# Altium schematic symbol library AD8233.SchLib: 11 symbols
Pins are listed as number, name and electrical type; pins without a type are passive.

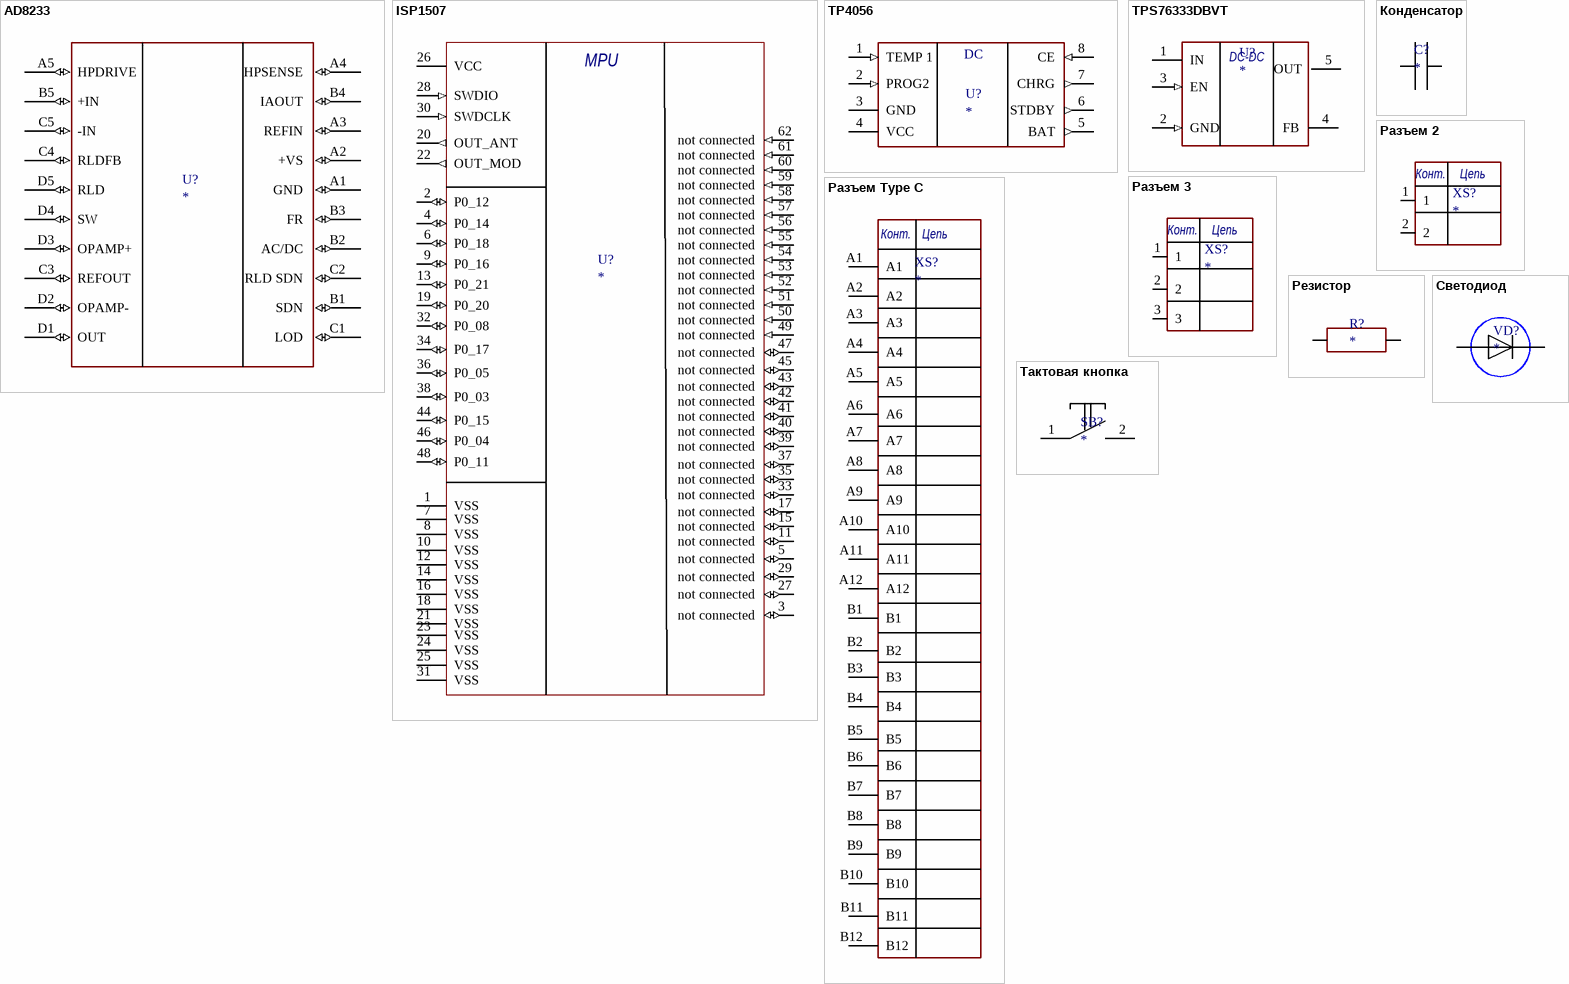
[diagram p0: symbols AD8233 to Тактовая кнопка]

## AD8233
designator U?
footprint WLCSP
pins: A1 GND  (io) "Power Supply Ground.", A2 +VS  (io) "Power Supply Terminal.", A3 REFIN  (io) "Reference Buffer Input. Use REFIN, a high impedance input terminal, to set the level of the reference buffer.", A4 HPSENSE  (io) ""High-Pass Sense Input for Instrumentation Amplifier. Connect HPSENSE to the junction of R and C that sets the", A5 HPDRIVE  (io) ""High-Pass Driver Output. Connect HPDRIVE to the capacitor in the first high-pass filter. The AD8233 drives this pin", B1 SDN  (io) "Shutdown Control Input. Drive SDN low to enter the low power shutdown mode.", B2 AC/DC  (io) ""Leads Off Mode Control Input. Drive the AC/DC pin low for dc leads off mode. Drive the AC/DC pin high for ac", B3 FR  (io) "Fast Restore Control Input. Drive FR high to enable fast recovery mode. Otherwise, drive it low.", B4 IAOUT  (io) "Instrumentation Amplifier Output Terminal.", B5 +IN  (io) "Instrumentation Amplifier, Positive Input. +IN is typically connected to the left arm (LA) electrode.", C1 LOD  (io) "Leads Off Detection Comparator Output.", C2 RLD SDN  (io) "Right Leg Drive Shutdown Control Input. Drive RLD SDN low to power down the RLD amplifier.", C3 REFOUT  (io) ""Reference Buffer Output. The instrumentation amplifier output is referenced to this potential. Use REFOUT as a", C4 RLDFB  (io) "Right Leg Drive Feedback Input. RLDFB is the feedback terminal for the right leg drive circuit.", C5 -IN  (io) "Instrumentation Amplifier, Negative Input. -IN is typically connected to the right arm (RA) electrode.", D1 OUT  (io) ""Operational Amplifier Output. The fully conditioned heart rate signal is present at this output. OUT can be", D2 OPAMP-  (io) "Operational Amplifier Inverting Input.", D3 OPAMP+  (io) "Operational Amplifier Noninverting Input.", D4 SW  (io) "Fast Restore Switch Terminal. Connect this terminal to the output of the second high-pass filter.", D5 RLD  (io) "Right Leg Drive Output. Connect the driven electrode (typically right leg) to the RLD pin."

## ISP1507
designator U?
footprint LGA QFN
pins: 1 VSS (power), 2 P0_12 (io), 3 not connected (io), 4 P0_14 (io), 5 not connected (io), 6 P0_18 (io), 7 VSS (power), 8 VSS (power), 9 P0_16 (io), 10 VSS (power), 11 not connected (io), 12 VSS (power), 13 P0_21 (io), 14 VSS (power), 15 not connected (io), 16 VSS (power), 17 not connected (io), 18 VSS (power), 19 P0_20 (io), 20 OUT_ANT (out), 21 VSS (power), 22 OUT_MOD (out), 23 VSS (power), 24 VSS (power), 25 VSS (power), 26 VCC (power), 27 not connected (io), 28 SWDIO (in), 29 not connected (io), 30 SWDCLK (in), 31 VSS (power), 32 P0_08 (io), 33 not connected (io), 34 P0_17 (io), 35 not connected (io), 36 P0_05 (io), 37 not connected (io), 38 P0_03 (io), 39 not connected (io), 40 not connected (io), 41 not connected (io), 42 not connected (io), 43 not connected (io), 44 P0_15 (io), 45 not connected (io), 46 P0_04 (io), 47 not connected (io), 48 P0_11 (io), 49 not connected (in), 50 not connected (in), 51 not connected (in), 52 not connected (in), 53 not connected (in), 54 not connected (in), 55 not connected (in), 56 not connected (in), 57 not connected (in), 58 not connected (in), 59 not connected (in), 60 not connected (in), 61 not connected (in), 62 not connected (in)
text: MPU

## TP4056
designator U?
footprint SOP-8
pins: 1 TEMP 1 (in), 2 PROG2 (in), 3 GND (power), 4 VCC (power), 5 BAT (out), 6 STDBY (out), 7 CHRG (out), 8 CE (in)
text: DC

## TPS76333DBVT
designator U?
footprint SOT23-5
pins: 1 IN (power), 2 GND (in), 3 EN (in), 4 FB (power), 5 OUT (power)
text: DC-DC

## Конденсатор
designator C?
footprint 0402
pins: 1, 2

## Разъем 2
designator XS?
pins: 1 (power), 2 (power)
text: Конт.; Цепь

## Разъем 3
designator XS?
pins: 1 (power), 2 (power), 3
text: Конт.; Цепь

## Разъем Type C
designator XS?
footprint USB Type C
pins: A1, A2, A3, A4, A5, A6, A7, A8, A9, A10, A11, A12, B1, B2, B3, B4, B5, B6, B7, B8, B9, B10, B11, B12
text: Конт.; Цепь

## Резистор
designator R?
footprint 0402
pins: 1, 2

## Светодиод
designator VD?
pins: 1, 2

## Тактовая кнопка
designator SB?
pins: 1, 2